# Altium footprint library PlantiumFormat.PcbLib: 4 footprints
Each footprint in its own frame and in the unit in brackets; x right, y up, seen from the top. Pads: shape width x height; smd on the part's side, far side on the other; paste and mask are expansions set on the pad; w line width, h text height; cw(c..) or ccw(c..) is an arc to the next point about the centre after c.
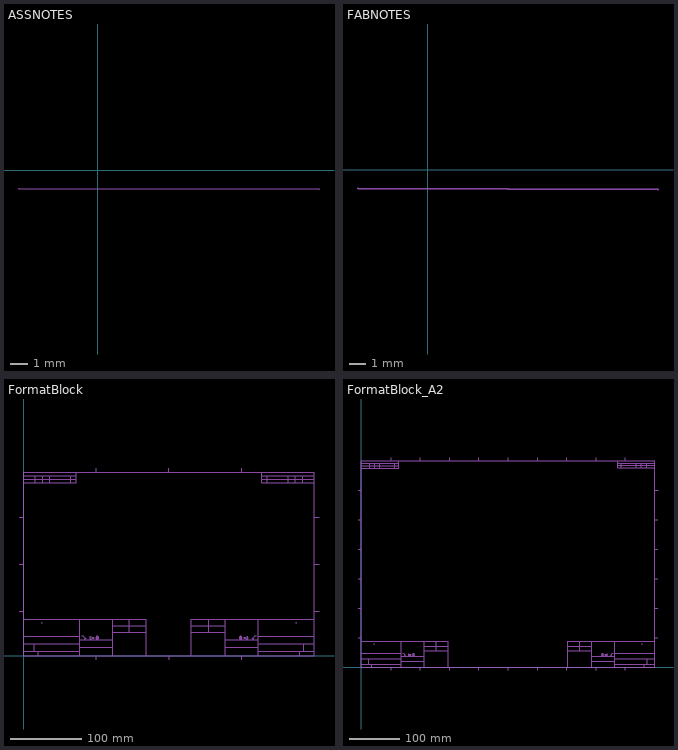
[diagram p0: the footprints below, top view; thin cyan lines are the x and y axes]

## ASSNOTES [mm]
Mechanical 29:
  lines w0.1: -4.578,-1.084 12.9,-1.1
  text ".N1_Item5" at -2.45,-25.5 h1.25
  text ".N1_Item4" at -2.7,-21.9 h1.25
  text ".N1_Item2" at -2.7,-11.7 h1.25
  text ".N1_Item8" at -2.95,-43.2 h1.25
  text ".N1_Item1" at -2.744,-7.7 h1.25
  text ".N1_Item3" at -2.7,-15.3 h1.25
  text ".N1_Item6" at -2.45,-33 h1.25
  text ".N1_Item7" at -2.7,-38.1 h1.25
  text "ASSEMBLY NOTES:" at -3.943,-0.449 h1.25
  text "2." at -5.184,-9.076 h1.25
  text "1." at -4.93,-6.364 h1.25
  text "4." at -5.184,-17.142 h1.25
  text "5." at -5.184,-23.669 h1.25
  text "6." at -5.184,-27.227 h1.25
  text "3." at -5.1,-13.8 h1.25
  text "7." at -5.438,-34.742 h1.25
  text "8." at -5.438,-39.772 h1.25

## FABNOTES [mm]
Mechanical 28:
  lines w0.127: -4.225,-1.121 13.9,-1.2
  text ".N2_Item7" at -1.85,-63 h1.25
  text ".N2_Item19" at -1.85,-127.5 h1.25
  text ".N2_Item2" at -1.85,-24.7 h1.25
  text ".N2_Item1" at -1.85,-12.3 h1.25
  text ".N2_Item6" at -1.85,-54 h1.25
  text ".N2_Item5" at -1.85,-45.8 h1.25
  text ".N2_Item9" at -1.85,-75.4 h1.25
  text ".N2_Item8" at -1.85,-69.3 h1.25
  text ".N2_Item16" at -1.85,-111.1 h1.25
  text ".N2_Item17" at -1.85,-117.3 h1.25
  text ".N2_Item22" at -1.85,-147 h1.25
  text ".N2_Item28" at -1.85,-176.6 h1.25
  text ".N2_Item3" at -1.85,-33.4 h1.25
  text ".N2_Item10" at -1.85,-81.7 h1.25
  text ".N2_Item15" at -1.85,-104.2 h1.25
  text ".N2_Item21" at -1.85,-138.1 h1.25
  text ".N2_Item27" at -1.85,-170.7 h1.25
  text "FABRICATION NOTES:" at -3.972,-0.561 h1.25
  text ".N2_Item12" at -1.75,-87.9 h1.25
  text ".N2_Item11" at -1.75,-83.65 h1.25
  text ".N2_Item13" at -1.75,-92.15 h1.25
  text ".N2_Item14" at -1.75,-96.15 h1.25
  text ".N2_Item18" at -1.75,-119.15 h1.25
  text ".N2_Item23" at -1.75,-149.15 h1.25
  text ".N2_Item26" at -1.85,-164.4 h1.25
  text ".N2_Item25" at -1.75,-158 h1.25
  text ".N2_Item4" at -1.75,-35.9 h1.25
  text ".N2_Item20" at -1.75,-129.4 h1.25
  text ".N2_Item24" at -1.75,-153.75 h1.25
  text "16." at -6.193,-106.657 h1.25
  text "1." at -6.193,-6.478 h1.25
  text "2." at -6.193,-14.81 h1.25
  text "3." at -6.193,-27.51 h1.25
  text "4." at -6.193,-35.841 h1.25
  text "8." at -6.193,-65.001 h1.25
  text "9." at -6.193,-71.401 h1.25
  text "10." at -6.193,-77.497 h1.25
  text "12." at -6.193,-87.861 h1.25
  text "11." at -6.193,-83.797 h1.25
  text "14." at -6.193,-96.293 h1.25
  text "13." at -6.193,-92.229 h1.25
  text "15." at -6.193,-100.357 h1.25
  text "17." at -6.193,-113.057 h1.25
  text "18." at -6.193,-119.153 h1.25
  text "24." at -6.193,-153.739 h1.25
  text "23." at -6.193,-149.218 h1.25
  text "26." at -6.193,-161.562 h1.25
  text "27." at -6.193,-167.025 h1.25
  text "5." at -6.193,-40.109 h1.25
  text "6." at -6.193,-48.338 h1.25
  text "7." at -6.193,-56.669 h1.25
  text "19." at -6.193,-123.421 h1.25
  text "20." at -6.193,-129.517 h1.25
  text "21." at -6.193,-133.885 h1.25
  text "22." at -6.193,-139.981 h1.25
  text "25." at -6.193,-158.002 h1.25
  text "28." at -6.193,-172.237 h1.25

## FormatBlock [mm]
Drill Guide:
  text "SHEET  3 OF 3" at 390.601,2.2 h1.2
  text "DRILL GUIDE" at 172.266,243.204 h6
Mechanical 11:
  text "LAMINATION DETAIL      Section A-A" at 170.358,243.077 h2.5
Mechanical 13:
  lines w0.127: -6.577,62.561 0,62.561 ; -6.577,128.427 0,128.427 ; -6.577,194.431 0,194.431 ; 101.92,257.533 101.92,262.881 ; 101.945,-5.469 101.945,-0.121 ; 203.84,257.533 203.84,262.881 ; 203.865,-5.469 203.865,-0.121 ; 235.374,32.878 282.945,32.878 ; 235.501,42.126 282.79,42.126 ; 259.33,33.005 259.33,51.374 ; 282.804,0.084 282.804,51.374 ; 282.804,11.606 329.046,11.606 ; 282.804,22.242 329.046,22.242 ; 305.76,257.533 305.76,262.881 ; 305.785,-5.469 305.785,-0.121 ; 328.999,6.605 407.666,6.605 ; 329.046,0.059 329.046,51.374 ; 329.046,27.501 407.658,27.501 ; 329.122,16.835 407.734,16.835 ; 334.104,247.893 407.658,247.893 ; 334.104,252.531 407.658,252.531 ; 334.104,257.398 334.104,242.936 407.697,242.936 ; 341.749,242.955 341.749,252.531 ; 371.162,242.946 371.162,252.474 ; 381.195,242.955 381.195,252.493 ; 387.342,0.16 387.342,6.637 ; 391.685,242.964 391.685,252.517 ; 392.701,6.605 392.701,16.597 ; 407.714,62.567 414.291,62.567 ; 407.714,128.433 414.291,128.433 ; 407.714,194.437 414.291,194.437
  lines w0.493: 235.374,0.084 235.374,51.374 407.616,51.374 ; 0,0 407.705,0 407.705,257.412 0,257.412 0,0
  text "'.Pcb_File_Name_No_Path'" at 330.708,1.6 h2
  text ".RevDate" at 395.931,244.955 h1.27
  text ".Approved" at 382.215,244.955 h1.27
  text ".Drawn" at 373.325,244.955 h1.27
  text ".HW_Version" at 335.733,244.955 h1.27
  text ".RevDescription" at 343.353,244.955 h1.27
  text "D" at -3.683,28.983 h2
  text "4" at 355.092,-3 h2
  text "B" at -3.683,160.528 h2
  text "C" at -3.907,94.236 h2
  text "4" at 356.72,259.489 h2
  text "A" at -3.907,226.29 h2
  text "2" at 152.88,259.461 h2
  text "3" at 254.8,259.461 h2
  text "1" at 50.92,259.461 h2
  text ".Approved" at 237.612,35.5 h2.54
  text ".Drawn" at 237.612,44.5 h2.54
  text ".RevDate" at 263.231,44.5 h1.78
  text ".RevDate" at 263.231,35.5 h1.78
  text "1" at 50.546,-3 h2
  text "A" at 410.384,226.296 h2
  text "2" at 152.273,-3 h2
  text "B" at 410.384,160.487 h2
  text "C" at 410.244,94.267 h2
  text "3" at 254.127,-3 h2
  text "D" at 410.384,28.952 h2
  text ".ProjectTitle" at 340.589,23 h2.5
  text ".HW_Version" at 397.002,10 h2
  text ".PartNumber" at 330.708,9 h4.01
  text ".Printout_Name" at 340.589,19 h2
Mechanical 14:
  lines w0.127: -6.577,62.561 0,62.561 ; -6.577,128.427 0,128.427 ; -6.577,194.431 0,194.431 ; -0.076,16.835 78.536,16.835 ; -0.008,6.605 78.659,6.605 ; 0,27.501 78.612,27.501 ; 0.227,242.682 73.82,242.682 73.82,257.144 ; 0.266,247.639 73.82,247.639 ; 0.266,252.277 73.82,252.277 ; 14.956,6.605 14.956,16.597 ; 16.239,242.71 16.239,252.263 ; 20.316,0.16 20.316,6.637 ; 26.729,242.701 26.729,252.239 ; 36.762,242.692 36.762,252.22 ; 66.175,242.701 66.175,252.277 ; 78.612,0.059 78.612,51.374 ; 78.612,11.606 124.854,11.606 ; 78.612,22.242 124.854,22.242 ; 101.596,257.367 101.641,257.412 ; 101.92,257.533 101.92,262.881 ; 101.945,-5.469 101.945,-0.121 ; 124.713,32.878 172.284,32.878 ; 124.854,0.084 124.854,51.374 ; 124.867,42.126 172.157,42.126 ; 148.327,33.005 148.327,51.374 ; 203.84,257.533 203.84,262.881 ; 203.865,-5.469 203.865,-0.121 ; 305.76,257.533 305.76,262.881 ; 305.785,-5.469 305.785,-0.121 ; 407.714,62.567 414.291,62.567 ; 407.714,128.433 414.291,128.433 ; 407.714,194.437 414.291,194.437
  lines w0.493: 0.042,51.374 172.284,51.374 172.284,0.084 ; 0,0 407.705,0 407.705,257.412 0,257.412 0,0
  text "'.Pcb_File_Name_No_Path'" at 76.95,1.6 h2
  text "A" at 411.895,226.296 h2
  text "2" at 255.397,-3 h2
  text "3" at 153.67,-3 h2
  text "1" at 358.14,259.461 h2
  text "1" at 356.489,-3 h2
  text "3" at 154.051,259.461 h2
  text "2" at 255.778,259.461 h2
  text "A" at -2.396,226.29 h2
  text "4" at 52.324,259.461 h2
  text "C" at -2.396,94.228 h2
  text "B" at -2.396,160.53 h2
  text "D" at -2.396,28.983 h2
  text "B" at 411.734,160.528 h2
  text "C" at 411.734,94.234 h2
  text "D" at 411.734,28.956 h2
  text "4" at 51.943,-3 h2
  text ".Drawn" at 170.046,44.5 h2.54
  text ".Approved" at 170.046,35.5 h2.54
  text ".RevDate" at 144.427,35.5 h1.78
  text ".RevDate" at 144.427,44.5 h1.78
  text ".HW_Version" at 10.656,10 h2
  text ".PartNumber" at 76.95,9 h4.01
  text ".Printout_Name" at 67.069,19 h2
  text ".ProjectTitle" at 67.069,23 h2.5
  text "SHEET  2 OF" at 16.692,2.2 h1.2
  text ".HW_Version" at 72.191,244.701 h1.27
  text ".RevDescription" at 64.571,244.701 h1.27
  text ".Drawn" at 34.599,244.701 h1.27
  text ".Approved" at 25.709,244.701 h1.27
  text ".RevDate" at 11.993,244.701 h1.27
Mechanical 15:
  circle w0.127: c304.387,25.324 r1.85
  circle w0.127: c304.387,25.324 r0.925
  lines w0.025: 381.847,46.261 381.974,46.261 ; 381.847,46.287 381.974,46.287 ; 381.847,46.312 381.974,46.312 ; 381.847,46.337 381.974,46.337 ; 381.847,46.363 381.974,46.363 ; 381.872,46.16 381.999,46.16 ; 381.872,46.185 381.999,46.185 ; 381.872,46.21 381.974,46.21 ; 381.872,46.236 381.974,46.236 ; 381.872,46.388 381.974,46.388 ; 381.872,46.414 381.974,46.414 ; 381.872,46.439 381.999,46.439 ; 381.872,46.464 381.999,46.464 ; 381.898,46.083 382.05,46.083 ; 381.898,46.109 382.025,46.109 ; 381.898,46.134 382.025,46.134 ; 381.898,46.49 382.025,46.49 ; 381.898,46.515 382.025,46.515 ; 381.923,46.058 382.076,46.058 ; 381.923,46.541 382.05,46.541 ; 381.923,46.566 382.076,46.566 ; 381.949,46.007 382.126,46.007 ; 381.949,46.033 382.101,46.033 ; 381.949,46.591 382.101,46.591 ; 381.974,45.982 382.177,45.982 ; 381.974,46.617 382.126,46.617 ; 381.999,45.956 382.228,45.956 ; 381.999,46.642 382.177,46.642 ; 382.025,46.668 382.279,46.668 ; 382.05,45.931 382.584,45.931 ; 382.05,46.693 382.558,46.693 ; 382.076,45.906 382.558,45.906 ; 382.101,46.718 382.533,46.718 ; 382.126,45.88 382.507,45.88 ; 382.126,46.058 382.253,46.058 ; 382.126,46.083 382.253,46.083 ; 382.126,46.109 382.253,46.109 ; 382.126,46.134 382.253,46.134 ; 382.126,46.16 382.253,46.16 ; 382.126,46.185 382.253,46.185 ; 382.126,46.21 382.253,46.21 ; 382.126,46.236 382.253,46.236 ; 382.126,46.261 382.457,46.261 ; 382.126,46.287 382.457,46.287 ; 382.126,46.312 382.457,46.312 ; 382.126,46.337 382.253,46.337 ; 382.126,46.363 382.253,46.363 ; 382.126,46.388 382.253,46.388 ; 382.126,46.414 382.253,46.414 ; 382.126,46.439 382.253,46.439 ; 382.126,46.464 382.253,46.464 ; 382.126,46.49 382.482,46.49 ; 382.126,46.515 382.482,46.515 ; 382.126,46.541 382.457,46.541 ; 382.152,46.744 382.457,46.744 ; 382.203,45.855 382.406,45.855 ; 382.203,46.566 382.355,46.566 ; 382.279,46.337 382.482,46.337 ; 382.33,46.236 382.482,46.236 ; 382.355,46.21 382.482,46.21 ; 382.355,46.363 382.507,46.363 ; 382.355,46.464 382.507,46.464 ; 382.355,46.668 382.609,46.668 ; 382.38,46.109 382.507,46.109 ; 382.38,46.134 382.507,46.134 ; 382.38,46.16 382.482,46.16 ; 382.38,46.185 382.482,46.185 ; 382.38,46.388 382.507,46.388 ; 382.38,46.439 382.507,46.439 ; 382.406,45.956 382.609,45.956 ; 382.406,46.058 382.533,46.058 ; 382.406,46.083 382.507,46.083 ; 382.406,46.414 382.507,46.414 ; 382.431,46.642 382.634,46.642 ; 382.457,45.982 382.634,45.982 ; 382.482,46.617 382.66,46.617 ; 382.507,46.007 382.66,46.007 ; 382.533,46.033 382.685,46.033 ; 382.533,46.591 382.685,46.591 ; 382.558,46.058 382.711,46.058 ; 382.558,46.566 382.685,46.566 ; 382.584,46.083 382.711,46.083 ; 382.584,46.515 382.711,46.515 ; 382.584,46.541 382.711,46.541 ; 382.609,46.109 382.736,46.109 ; 382.609,46.134 382.736,46.134 ; 382.609,46.49 382.736,46.49 ; 382.634,46.16 382.736,46.16 ; 382.634,46.185 382.761,46.185 ; 382.634,46.21 382.761,46.21 ; 382.634,46.414 382.761,46.414 ; 382.634,46.439 382.761,46.439 ; 382.634,46.464 382.736,46.464 ; 382.66,46.236 382.761,46.236 ; 382.66,46.261 382.761,46.261 ; 382.66,46.287 382.761,46.287 ; 382.66,46.312 382.761,46.312 ; 382.66,46.337 382.761,46.337 ; 382.66,46.363 382.761,46.363 ; 382.66,46.388 382.761,46.388
  lines w0.127: 302.075,25.324 302.999,25.324 ; 303.924,25.324 304.849,25.324 ; 304.387,23.167 304.387,24.091 ; 304.387,24.862 304.387,25.787 ; 304.387,26.712 304.387,27.636 ; 305.774,25.324 306.699,25.324 ; 309.011,25.324 311.323,25.324 ; 311.785,25.324 312.248,25.324 ; 312.71,25.324 315.022,25.324 ; 319.956,25.324 321.805,23.475 324.118,28.099 325.967,28.099 ; 309.473,24.399 314.098,23.475 314.098,27.174 309.473,26.249 309.473,24.399
  text "(SEE NOTES)" at 297.379,4 h2.03
  text "(SEE NOTES)" at 297.379,15 h2.03
  text "DATE" at 260.367,40.295 h1.2
  text "DATE" at 260.367,49.236 h1.27
  text "DRAWN" at 236.872,49.134 h1.27
  text "APPROVED" at 236.822,40.143 h1.27
  text "USED FOR MANUFACTURING  OR  FOR ANY" at 238.879,10.095 h1.27
  text "PROPRIETARY INFORMATION" at 242.206,28.103 h1.78
  text "INFORMATION  WHICH  SHALL  NOT  BE" at 238.752,20.026 h1.27
  text "THIS DOCUMENT CONTAINS PROPRIETARY" at 238.752,23.226 h1.27
  text "DOCUMENTS OR DISCLOSED TO OTHERS OR" at 238.93,13.32 h1.27
  text "PERMISSION OF PLANTIUM." at 238.879,3.262 h1.27
  text "REPRODUCED OR TRANSFERRED TO OTHER" at 238.879,16.648 h1.27
  text "OTHER PURPOSE WITHOUT THE PRIOR WRITTEN" at 238.803,6.462 h1.27
  text "VERSION" at 397.002,14.732 h1.2
  text "FILENAME:" at 330.827,4.837 h1.2
  text "PART NUMBER" at 331.03,14.844 h1.2
  text "FINISH:" at 285.464,8.832 h1.66
  text "MATERIAL:" at 285.464,19.467 h1.66
  text "TITLE" at 330.928,25.169 h1.66
  text "-DIMENSIONS ARE IN MILLIMETERS" at 284.653,43.581 h1.66
  text "UNLESS OTHERWISE SPECIFIED:" at 284.334,47.25 h1.65
  text "-REMOVE ALL BURRS & BREAK" at 284.653,40.652 h1.66
  text "SHARP EDGES" at 285.08,38.307 h1.66
  text "-TOLERANCE ON:" at 284.653,35.753 h1.66
  text "DECIMALS:" at 286.817,32.878 h1.66
  text "XXX .005" at 286.817,24.092 h1.66
  text "XX .01" at 286.817,26.866 h1.66
  text "ANGLES:" at 317.485,32.878 h1.66
  text "FRACTIONS:" at 301.612,32.723 h1.66
  text "1/64" at 302.537,29.486 h1.66
  text "X .02" at 286.817,29.641 h1.66
  text "63" at 319.493,26.249 h1.66
  text "1" at 320.881,29.486 h1.66
  text "1" at 320.881,29.486 h1.66
  text "Villa Constitucion, Santa Fe, CP 2919" at 331.63,32.244 h1.94
  text "PHONE (03400) 47-4199" at 331.63,28.819 h1.94
  text "PLANTIUM" at 362.137,43.264 h2.54
  text "San Luis 279" at 331.723,35.593 h1.94
  text "DRAWN" at 373.325,249.527 h1.23
  text "DATE" at 397.455,249.527 h1.23
  text "APPROVED" at 381.961,249.527 h1.2
  text "DESCRIPTION" at 352.243,249.527 h1.23
  text "VERSION" at 334.772,249.428 h1.14
  text "REVISIONS HISTORY" at 361.002,254.239 h1.4
Mechanical 16:
  circle w0.127: c103.271,25.324 r0.925
  circle w0.127: c103.271,25.324 r1.85
  lines w0.025: 24.896,46.185 25.023,46.185 ; 24.896,46.21 25.023,46.21 ; 24.896,46.236 24.998,46.236 ; 24.896,46.261 24.998,46.261 ; 24.896,46.287 24.998,46.287 ; 24.896,46.312 24.998,46.312 ; 24.896,46.337 24.998,46.337 ; 24.896,46.363 24.998,46.363 ; 24.896,46.388 24.998,46.388 ; 24.896,46.414 25.023,46.414 ; 24.896,46.439 25.023,46.439 ; 24.922,46.109 25.049,46.109 ; 24.922,46.134 25.049,46.134 ; 24.922,46.16 25.023,46.16 ; 24.922,46.464 25.023,46.464 ; 24.922,46.49 25.049,46.49 ; 24.947,46.058 25.099,46.058 ; 24.947,46.083 25.074,46.083 ; 24.947,46.515 25.074,46.515 ; 24.947,46.541 25.074,46.541 ; 24.972,46.033 25.125,46.033 ; 24.972,46.566 25.099,46.566 ; 24.972,46.591 25.125,46.591 ; 24.998,46.007 25.15,46.007 ; 24.998,46.617 25.176,46.617 ; 25.023,45.982 25.201,45.982 ; 25.023,46.642 25.226,46.642 ; 25.049,45.956 25.252,45.956 ; 25.049,46.668 25.303,46.668 ; 25.074,45.931 25.607,45.931 ; 25.099,45.906 25.582,45.906 ; 25.099,46.693 25.607,46.693 ; 25.125,46.058 25.252,46.058 ; 25.125,46.718 25.557,46.718 ; 25.15,45.88 25.531,45.88 ; 25.15,46.083 25.252,46.083 ; 25.15,46.109 25.277,46.109 ; 25.15,46.134 25.277,46.134 ; 25.15,46.363 25.303,46.363 ; 25.15,46.388 25.277,46.388 ; 25.15,46.414 25.252,46.414 ; 25.15,46.439 25.277,46.439 ; 25.15,46.464 25.303,46.464 ; 25.176,46.16 25.277,46.16 ; 25.176,46.185 25.277,46.185 ; 25.176,46.21 25.303,46.21 ; 25.176,46.236 25.328,46.236 ; 25.176,46.337 25.379,46.337 ; 25.176,46.49 25.531,46.49 ; 25.176,46.515 25.531,46.515 ; 25.201,46.261 25.531,46.261 ; 25.201,46.287 25.531,46.287 ; 25.201,46.312 25.531,46.312 ; 25.201,46.541 25.531,46.541 ; 25.201,46.744 25.506,46.744 ; 25.252,45.855 25.455,45.855 ; 25.303,46.566 25.455,46.566 ; 25.379,46.668 25.633,46.668 ; 25.404,46.058 25.531,46.058 ; 25.404,46.083 25.531,46.083 ; 25.404,46.109 25.531,46.109 ; 25.404,46.134 25.531,46.134 ; 25.404,46.16 25.531,46.16 ; 25.404,46.185 25.531,46.185 ; 25.404,46.21 25.531,46.21 ; 25.404,46.236 25.531,46.236 ; 25.404,46.337 25.531,46.337 ; 25.404,46.363 25.531,46.363 ; 25.404,46.388 25.531,46.388 ; 25.404,46.414 25.531,46.414 ; 25.404,46.439 25.531,46.439 ; 25.404,46.464 25.531,46.464 ; 25.43,45.956 25.658,45.956 ; 25.48,45.982 25.684,45.982 ; 25.48,46.642 25.658,46.642 ; 25.531,46.007 25.709,46.007 ; 25.531,46.617 25.684,46.617 ; 25.557,46.033 25.709,46.033 ; 25.557,46.591 25.709,46.591 ; 25.582,46.058 25.734,46.058 ; 25.582,46.566 25.734,46.566 ; 25.607,46.083 25.76,46.083 ; 25.607,46.541 25.734,46.541 ; 25.633,46.109 25.76,46.109 ; 25.633,46.134 25.76,46.134 ; 25.633,46.49 25.76,46.49 ; 25.633,46.515 25.76,46.515 ; 25.658,46.16 25.785,46.16 ; 25.658,46.185 25.785,46.185 ; 25.658,46.439 25.785,46.439 ; 25.658,46.464 25.785,46.464 ; 25.684,46.21 25.785,46.21 ; 25.684,46.236 25.785,46.236 ; 25.684,46.261 25.811,46.261 ; 25.684,46.287 25.811,46.287 ; 25.684,46.312 25.811,46.312 ; 25.684,46.337 25.811,46.337 ; 25.684,46.363 25.811,46.363 ; 25.684,46.388 25.785,46.388 ; 25.684,46.414 25.785,46.414
  lines w0.127: 81.69,28.099 83.54,28.099 85.852,23.475 87.702,25.324 ; 92.635,25.324 94.947,25.324 ; 95.41,25.324 95.872,25.324 ; 96.335,25.324 98.647,25.324 ; 100.959,25.324 101.884,25.324 ; 102.809,25.324 103.733,25.324 ; 103.271,23.167 103.271,24.091 ; 103.271,24.862 103.271,25.787 ; 103.271,26.712 103.271,27.636 ; 104.658,25.324 105.583,25.324 ; 93.56,23.475 93.56,27.174 98.184,26.249 98.184,24.399 93.56,23.475
  text "DRAWN" at 170.785,49.134 h1.27
  text "APPROVED" at 170.836,40.143 h1.27
  text "DATE" at 147.29,40.295 h1.2
  text "DATE" at 147.29,49.236 h1.27
  text "TITLE" at 76.729,25.169 h1.66
  text "VERSION" at 10.656,14.732 h1.2
  text "PART NUMBER" at 76.627,14.844 h1.2
  text "FILENAME:" at 76.831,4.837 h1.2
  text "(SEE NOTES)" at 110.279,4 h2.03
  text "FINISH:" at 122.194,8.832 h1.66
  text "MATERIAL:" at 122.194,19.467 h1.66
  text "(SEE NOTES)" at 110.279,15 h2.03
  text "REPRODUCED OR TRANSFERRED TO OTHER" at 168.779,16.648 h1.27
  text "PROPRIETARY INFORMATION" at 165.451,28.103 h1.78
  text "INFORMATION  WHICH  SHALL  NOT  BE" at 168.906,20.026 h1.27
  text "USED FOR MANUFACTURING  OR  FOR ANY" at 168.779,10.095 h1.27
  text "DOCUMENTS OR DISCLOSED TO OTHERS OR" at 168.728,13.32 h1.27
  text "PERMISSION OF PLANTIUM." at 168.779,3.262 h1.27
  text "OTHER PURPOSE WITHOUT THE PRIOR WRITTEN" at 168.855,6.462 h1.27
  text "THIS DOCUMENT CONTAINS PROPRIETARY" at 168.906,23.226 h1.27
  text "-TOLERANCE ON:" at 123.004,35.753 h1.66
  text "SHARP EDGES" at 122.578,38.307 h1.66
  text "FRACTIONS:" at 106.046,32.723 h1.66
  text "1/64" at 105.121,29.486 h1.66
  text "DECIMALS:" at 120.841,32.878 h1.66
  text "XXX .005" at 120.841,24.092 h1.66
  text "ANGLES:" at 90.172,32.878 h1.66
  text "XX .01" at 120.841,26.866 h1.66
  text "X .02" at 120.841,29.641 h1.66
  text "63" at 88.164,26.249 h1.66
  text "1" at 86.777,29.486 h1.66
  text "1" at 86.777,29.486 h1.66
  text "-REMOVE ALL BURRS & BREAK" at 123.004,40.652 h1.66
  text "-DIMENSIONS ARE IN MILLIMETERS" at 123.004,43.581 h1.66
  text "UNLESS OTHERWISE SPECIFIED:" at 123.324,47.25 h1.65
  text "PHONE (03400) 47-4199" at 76.028,28.819 h1.94
  text "San Luis 279" at 75.935,35.593 h1.94
  text "Villa Constitucion, Santa Fe, CP 2919" at 76.028,32.244 h1.94
  text "PLANTIUM" at 45.521,43.264 h2.54
  text "VERSION" at 73.152,249.174 h1.14
  text "DESCRIPTION" at 55.681,249.273 h1.23
  text "REVISIONS HISTORY" at 46.922,253.985 h1.4
  text "APPROVED" at 25.963,249.273 h1.2
  text "DRAWN" at 34.599,249.273 h1.23
  text "DATE" at 10.469,249.273 h1.23
Drill Drawing:
  text "DRILL DRAWING" at 167,243.2 h6
  text "SHEET  2 OF 3" at 390.6,2.2 h1.2
Mechanical 20:
  text "TOP ASSEMBLY DRAWING" at 151.939,243.204 h6
  text "2" at 402.59,2.2 h1.2
Mechanical 21:
  text "3" at 4.517,2.2 h1.2
Mechanical 22:
  text "BOTTOM ASSEMBLY DRAWING" at 263.058,243.204 h6
  text "2" at 4.517,2.2 h1.2
Mechanical 23:
  text "3" at 402.59,2.2 h1.2
Mechanical 24:
  text "SHEET  1 OF" at 390.597,2.2 h1.2

## FormatBlock_A2 [mm]
Drill Guide:
  text "SHEET  3 OF 3" at 563.742,2.2 h1.2
  text "DRILL GUIDE" at 271.866,393.104 h6
Mechanical 11:
  text "LAMINATION DETAIL      Section A-A" at 269.958,392.977 h2.5
Mechanical 13:
  lines w0.127: -6.579,58.487 -0.002,58.487 ; -6.578,116.956 -0.002,116.956 ; -6.578,175.425 -0.001,175.425 ; -6.578,233.893 -0.001,233.893 ; -6.578,292.362 -0.001,292.362 ; -6.577,350.831 -0.001,350.831 ; 58.846,-5.348 58.846,0 ; 58.846,409.3 58.846,414.648 ; 116.846,-5.348 116.846,0 ; 116.846,409.3 116.846,414.648 ; 174.846,-5.348 174.846,0 ; 174.846,409.3 174.846,414.648 ; 232.846,-5.348 232.846,0 ; 232.846,409.3 232.846,414.648 ; 290.846,-5.348 290.846,0 ; 290.846,409.3 290.846,414.648 ; 348.846,-5.348 348.846,0 ; 348.846,409.3 348.846,414.648 ; 406.846,-5.348 406.846,0 ; 406.846,409.3 406.846,414.648 ; 408.514,32.878 456.086,32.878 ; 408.641,42.126 455.931,42.126 ; 432.471,33.005 432.471,51.374 ; 455.944,0.084 455.944,51.374 ; 455.944,11.606 502.186,11.606 ; 455.944,22.242 502.186,22.242 ; 464.846,-5.348 464.846,0 ; 464.846,409.3 464.846,414.648 ; 502.14,6.605 580.806,6.605 ; 502.186,0.059 502.186,51.374 ; 502.186,27.501 580.798,27.501 ; 502.263,16.835 580.874,16.835 ; 507.244,399.781 580.798,399.781 ; 507.244,404.419 580.798,404.419 ; 507.244,409.286 507.244,394.824 580.838,394.824 ; 514.89,394.843 514.89,404.419 ; 522.846,-5.348 522.846,0 ; 522.846,409.3 522.846,414.648 ; 544.303,394.834 544.303,404.362 ; 554.336,394.843 554.336,404.381 ; 560.483,0.16 560.483,6.637 ; 564.826,394.852 564.826,404.405 ; 565.842,6.605 565.842,16.597 ; 580.844,58.487 587.421,58.487 ; 580.844,116.956 587.421,116.956 ; 580.845,175.425 587.421,175.425 ; 580.845,233.893 587.422,233.893 ; 580.845,292.362 587.422,292.362 ; 580.845,350.831 587.422,350.831
  lines w0.493: 408.514,0.084 408.514,51.374 580.756,51.374 ; 0,0 0,409.3 580.846,409.3 580.846,0 0,0
  text "1" at 550.761,-3.271 h2
  text "2" at 492.8,-3.3 h2
  text "4" at 376.761,-3.271 h2
  text "5" at 318.761,-3.271 h2
  text "6" at 260.761,-3.271 h2
  text "7" at 202.761,-3.271 h2
  text "8" at 144.761,-3.271 h2
  text "9" at 86.2,-3.3 h2
  text "3" at 434.761,-3.271 h2
  text "10" at 28.6,-3.271 h2
  text "10" at 28.6,411.4 h2
  text "3" at 434.761,411.377 h2
  text "9" at 86.761,411.377 h2
  text "8" at 144.761,411.377 h2
  text "7" at 202.761,411.377 h2
  text "6" at 260.761,411.377 h2
  text "5" at 318.761,411.377 h2
  text "4" at 376.761,411.377 h2
  text "A" at 583.416,380.79 h2
  text "C" at 583.316,261.636 h2
  text "B" at 583.54,320.528 h2
  text "D" at 583.54,203.383 h2
  text "E" at 583.44,145.383 h2
  text "F" at 583.44,88.983 h2
  text "G" at 583.54,26.683 h2
  text "G" at -3.883,26.683 h2
  text "F" at -3.983,88.983 h2
  text "E" at -3.983,145.383 h2
  text ".Printout_Name" at 513.73,19 h2
  text ".PartNumber" at 503.849,9 h4.01
  text ".HW_Version" at 570.143,10 h2
  text ".ProjectTitle" at 513.73,23 h2.5
  text ".RevDate" at 436.371,35.5 h1.78
  text ".RevDate" at 436.371,44.5 h1.78
  text ".Drawn" at 410.753,44.5 h2.54
  text ".Approved" at 410.753,35.5 h2.54
  text "'.Pcb_File_Name_No_Path'" at 503.849,1.6 h2
  text ".RevDescription" at 516.493,396.843 h1.27
  text ".HW_Version" at 508.873,396.843 h1.27
  text ".Drawn" at 546.465,396.843 h1.27
  text ".Approved" at 555.355,396.843 h1.27
  text ".RevDate" at 569.071,396.843 h1.27
  text "2" at 493.985,411.329 h2
  text "1" at 550.761,411.377 h2
  text "D" at -3.883,203.383 h2
  text "B" at -3.883,320.528 h2
  text "C" at -4.107,261.636 h2
  text "A" at -4.007,380.79 h2
Mechanical 14:
  lines w0.127: -6.579,58.487 -0.002,58.487 ; -6.578,116.956 -0.002,116.956 ; -6.578,175.425 -0.001,175.425 ; -6.578,233.893 -0.001,233.893 ; -6.578,292.362 -0.001,292.362 ; -6.577,350.831 -0.001,350.831 ; -0.076,16.835 78.536,16.835 ; -0.008,6.605 78.659,6.605 ; 0,27.501 78.612,27.501 ; 0.227,394.57 73.82,394.57 73.82,409.032 ; 0.266,399.527 73.82,399.527 ; 0.266,404.165 73.82,404.165 ; 14.956,6.605 14.956,16.597 ; 16.239,394.598 16.239,404.151 ; 20.316,0.16 20.316,6.637 ; 26.729,394.589 26.729,404.127 ; 36.762,394.58 36.762,404.108 ; 58.846,-5.348 58.846,0 ; 58.846,409.3 58.846,414.648 ; 66.175,394.589 66.175,404.165 ; 78.612,0.059 78.612,51.374 ; 78.612,11.606 124.854,11.606 ; 78.612,22.242 124.854,22.242 ; 116.846,-5.348 116.846,0 ; 116.846,409.3 116.846,414.648 ; 124.713,32.878 172.284,32.878 ; 124.854,0.084 124.854,51.374 ; 124.867,42.126 172.157,42.126 ; 148.327,33.005 148.327,51.374 ; 174.846,-5.348 174.846,0 ; 174.846,409.3 174.846,414.648 ; 232.846,-5.348 232.846,0 ; 232.846,409.3 232.846,414.648 ; 290.846,-5.348 290.846,0 ; 290.846,409.3 290.846,414.648 ; 348.846,-5.348 348.846,0 ; 348.846,409.3 348.846,414.648 ; 406.846,-5.348 406.846,0 ; 406.846,409.3 406.846,414.648 ; 464.846,-5.348 464.846,0 ; 464.846,409.3 464.846,414.648 ; 522.846,-5.348 522.846,0 ; 522.846,409.3 522.846,414.648 ; 580.844,58.487 587.421,58.487 ; 580.844,116.956 587.421,116.956 ; 580.845,175.425 587.421,175.425 ; 580.845,233.893 587.422,233.893 ; 580.845,292.362 587.422,292.362 ; 580.845,350.831 587.422,350.831
  lines w0.493: 0.042,51.374 172.284,51.374 172.284,0.084 ; 0,0 0,409.3 580.846,409.3 580.846,0 0,0
  text "1" at 30.085,-3.271 h2
  text "2" at 87.4,-3.3 h2
  text "4" at 204.085,-3.271 h2
  text "5" at 262.085,-3.271 h2
  text "6" at 320.085,-3.271 h2
  text "7" at 378.085,-3.271 h2
  text "8" at 436.085,-3.271 h2
  text "9" at 494.085,-3.271 h2
  text "3" at 146.085,-3.271 h2
  text "10" at 552.3,-3.2 h2
  text "D" at 584.827,203.383 h2
  text "B" at 584.827,320.53 h2
  text "C" at 584.827,261.628 h2
  text "A" at 584.927,380.79 h2
  text "E" at 584.727,145.383 h2
  text "F" at 584.727,88.983 h2
  text "G" at 585.023,26.7 h2
  text "G" at -2.4,26.7 h2
  text "F" at -2.696,88.983 h2
  text "E" at -2.696,145.383 h2
  text ".RevDate" at 11.993,396.589 h1.27
  text ".Approved" at 25.709,396.589 h1.27
  text ".Drawn" at 34.599,396.589 h1.27
  text ".RevDescription" at 64.571,396.589 h1.27
  text ".HW_Version" at 72.191,396.589 h1.27
  text "A" at -2.496,380.79 h2
  text "C" at -2.596,261.628 h2
  text "B" at -2.596,320.53 h2
  text "D" at -2.596,203.383 h2
  text "'.Pcb_File_Name_No_Path'" at 76.95,1.6 h2
  text ".Drawn" at 170.046,44.5 h2.54
  text ".Approved" at 170.046,35.5 h2.54
  text ".RevDate" at 144.427,35.5 h1.78
  text ".RevDate" at 144.427,44.5 h1.78
  text ".HW_Version" at 10.656,10 h2
  text ".PartNumber" at 76.95,9 h4.01
  text ".Printout_Name" at 67.069,19 h2
  text ".ProjectTitle" at 67.069,23 h2.5
  text "SHEET  2 OF" at 16.692,2.2 h1.2
  text "10" at 552.2,411.4 h2
  text "3" at 145.985,411.329 h2
  text "9" at 495.2,411.4 h2
  text "8" at 435.985,411.329 h2
  text "7" at 377.985,411.329 h2
  text "6" at 319.985,411.329 h2
  text "5" at 261.985,411.329 h2
  text "4" at 203.985,411.329 h2
  text "2" at 88,411.4 h2
  text "1" at 30.1,411.4 h2
Mechanical 15:
  circle w0.127: c477.527,25.324 r0.925
  circle w0.127: c477.527,25.324 r1.85
  lines w0.025: 554.988,46.261 555.115,46.261 ; 554.988,46.287 555.115,46.287 ; 554.988,46.312 555.115,46.312 ; 554.988,46.337 555.115,46.337 ; 554.988,46.363 555.115,46.363 ; 555.013,46.16 555.14,46.16 ; 555.013,46.185 555.14,46.185 ; 555.013,46.21 555.115,46.21 ; 555.013,46.236 555.115,46.236 ; 555.013,46.388 555.115,46.388 ; 555.013,46.414 555.115,46.414 ; 555.013,46.439 555.14,46.439 ; 555.013,46.464 555.14,46.464 ; 555.039,46.083 555.191,46.083 ; 555.039,46.109 555.166,46.109 ; 555.039,46.134 555.166,46.134 ; 555.039,46.49 555.166,46.49 ; 555.039,46.515 555.166,46.515 ; 555.064,46.058 555.216,46.058 ; 555.064,46.541 555.191,46.541 ; 555.064,46.566 555.216,46.566 ; 555.089,46.007 555.267,46.007 ; 555.089,46.033 555.242,46.033 ; 555.089,46.591 555.242,46.591 ; 555.115,45.982 555.318,45.982 ; 555.115,46.617 555.267,46.617 ; 555.14,45.956 555.369,45.956 ; 555.14,46.642 555.318,46.642 ; 555.166,46.668 555.42,46.668 ; 555.191,45.931 555.724,45.931 ; 555.191,46.693 555.699,46.693 ; 555.216,45.906 555.699,45.906 ; 555.242,46.718 555.674,46.718 ; 555.267,45.88 555.648,45.88 ; 555.267,46.058 555.394,46.058 ; 555.267,46.083 555.394,46.083 ; 555.267,46.109 555.394,46.109 ; 555.267,46.134 555.394,46.134 ; 555.267,46.16 555.394,46.16 ; 555.267,46.185 555.394,46.185 ; 555.267,46.21 555.394,46.21 ; 555.267,46.236 555.394,46.236 ; 555.267,46.261 555.597,46.261 ; 555.267,46.287 555.597,46.287 ; 555.267,46.312 555.597,46.312 ; 555.267,46.337 555.394,46.337 ; 555.267,46.363 555.394,46.363 ; 555.267,46.388 555.394,46.388 ; 555.267,46.414 555.394,46.414 ; 555.267,46.439 555.394,46.439 ; 555.267,46.464 555.394,46.464 ; 555.267,46.49 555.623,46.49 ; 555.267,46.515 555.623,46.515 ; 555.267,46.541 555.597,46.541 ; 555.293,46.744 555.597,46.744 ; 555.343,45.855 555.547,45.855 ; 555.343,46.566 555.496,46.566 ; 555.42,46.337 555.623,46.337 ; 555.47,46.236 555.623,46.236 ; 555.496,46.21 555.623,46.21 ; 555.496,46.363 555.648,46.363 ; 555.496,46.464 555.648,46.464 ; 555.496,46.668 555.75,46.668 ; 555.521,46.109 555.648,46.109 ; 555.521,46.134 555.648,46.134 ; 555.521,46.16 555.623,46.16 ; 555.521,46.185 555.623,46.185 ; 555.521,46.388 555.648,46.388 ; 555.521,46.439 555.648,46.439 ; 555.547,45.956 555.75,45.956 ; 555.547,46.058 555.674,46.058 ; 555.547,46.083 555.648,46.083 ; 555.547,46.414 555.648,46.414 ; 555.572,46.642 555.775,46.642 ; 555.597,45.982 555.775,45.982 ; 555.623,46.617 555.801,46.617 ; 555.648,46.007 555.801,46.007 ; 555.674,46.033 555.826,46.033 ; 555.674,46.591 555.826,46.591 ; 555.699,46.058 555.851,46.058 ; 555.699,46.566 555.826,46.566 ; 555.724,46.083 555.851,46.083 ; 555.724,46.515 555.851,46.515 ; 555.724,46.541 555.851,46.541 ; 555.75,46.109 555.877,46.109 ; 555.75,46.134 555.877,46.134 ; 555.75,46.49 555.877,46.49 ; 555.775,46.16 555.877,46.16 ; 555.775,46.185 555.902,46.185 ; 555.775,46.21 555.902,46.21 ; 555.775,46.414 555.902,46.414 ; 555.775,46.439 555.902,46.439 ; 555.775,46.464 555.877,46.464 ; 555.801,46.236 555.902,46.236 ; 555.801,46.261 555.902,46.261 ; 555.801,46.287 555.902,46.287 ; 555.801,46.312 555.902,46.312 ; 555.801,46.337 555.902,46.337 ; 555.801,46.363 555.902,46.363 ; 555.801,46.388 555.902,46.388
  lines w0.127: 475.215,25.324 476.14,25.324 ; 477.065,25.324 477.99,25.324 ; 477.527,23.167 477.527,24.091 ; 477.527,24.862 477.527,25.787 ; 477.527,26.712 477.527,27.636 ; 478.915,25.324 479.839,25.324 ; 482.152,25.324 484.464,25.324 ; 484.926,25.324 485.388,25.324 ; 485.851,25.324 488.163,25.324 ; 493.096,25.324 494.946,23.475 497.258,28.099 499.108,28.099 ; 482.614,24.399 482.614,26.249 487.238,27.174 487.238,23.475 482.614,24.399
  text "San Luis 279" at 504.864,35.593 h1.94
  text "PLANTIUM" at 535.277,43.264 h2.54
  text "PHONE (03400) 47-4199" at 504.77,28.819 h1.94
  text "Villa Constitucion, Santa Fe, CP 2919" at 504.77,32.244 h1.94
  text "1" at 494.021,29.486 h1.66
  text "1" at 494.021,29.486 h1.66
  text "63" at 492.634,26.249 h1.66
  text "X .02" at 459.958,29.641 h1.66
  text "1/64" at 475.678,29.486 h1.66
  text "FRACTIONS:" at 474.753,32.723 h1.66
  text "ANGLES:" at 490.626,32.878 h1.66
  text "XX .01" at 459.958,26.866 h1.66
  text "XXX .005" at 459.958,24.092 h1.66
  text "DECIMALS:" at 459.958,32.878 h1.66
  text "-TOLERANCE ON:" at 457.794,35.753 h1.66
  text "SHARP EDGES" at 458.221,38.307 h1.66
  text "-REMOVE ALL BURRS & BREAK" at 457.794,40.652 h1.66
  text "UNLESS OTHERWISE SPECIFIED:" at 457.474,47.25 h1.65
  text "-DIMENSIONS ARE IN MILLIMETERS" at 457.794,43.581 h1.66
  text "TITLE" at 504.069,25.169 h1.66
  text "MATERIAL:" at 458.605,19.467 h1.66
  text "FINISH:" at 458.605,8.832 h1.66
  text "PART NUMBER" at 504.171,14.844 h1.2
  text "FILENAME:" at 503.968,4.837 h1.2
  text "VERSION" at 570.143,14.732 h1.2
  text "OTHER PURPOSE WITHOUT THE PRIOR WRITTEN" at 411.943,6.462 h1.27
  text "REPRODUCED OR TRANSFERRED TO OTHER" at 412.02,16.648 h1.27
  text "PERMISSION OF PLANTIUM." at 412.02,3.262 h1.27
  text "DOCUMENTS OR DISCLOSED TO OTHERS OR" at 412.07,13.32 h1.27
  text "THIS DOCUMENT CONTAINS PROPRIETARY" at 411.893,23.226 h1.27
  text "INFORMATION  WHICH  SHALL  NOT  BE" at 411.893,20.026 h1.27
  text "PROPRIETARY INFORMATION" at 415.347,28.103 h1.78
  text "USED FOR MANUFACTURING  OR  FOR ANY" at 412.02,10.095 h1.27
  text "APPROVED" at 409.962,40.143 h1.27
  text "DRAWN" at 410.013,49.134 h1.27
  text "DATE" at 433.508,49.236 h1.27
  text "DATE" at 433.508,40.295 h1.2
  text "(SEE NOTES)" at 470.519,15 h2.03
  text "(SEE NOTES)" at 470.519,4 h2.03
  text "REVISIONS HISTORY" at 534.143,406.127 h1.4
  text "VERSION" at 507.913,401.316 h1.14
  text "DESCRIPTION" at 525.383,401.415 h1.23
  text "APPROVED" at 555.101,401.415 h1.2
  text "DATE" at 570.595,401.415 h1.23
  text "DRAWN" at 546.465,401.415 h1.23
Mechanical 16:
  circle w0.127: c103.271,25.324 r0.925
  circle w0.127: c103.271,25.324 r1.85
  lines w0.025: 24.896,46.185 25.023,46.185 ; 24.896,46.21 25.023,46.21 ; 24.896,46.236 24.998,46.236 ; 24.896,46.261 24.998,46.261 ; 24.896,46.287 24.998,46.287 ; 24.896,46.312 24.998,46.312 ; 24.896,46.337 24.998,46.337 ; 24.896,46.363 24.998,46.363 ; 24.896,46.388 24.998,46.388 ; 24.896,46.414 25.023,46.414 ; 24.896,46.439 25.023,46.439 ; 24.922,46.109 25.049,46.109 ; 24.922,46.134 25.049,46.134 ; 24.922,46.16 25.023,46.16 ; 24.922,46.464 25.023,46.464 ; 24.922,46.49 25.049,46.49 ; 24.947,46.058 25.099,46.058 ; 24.947,46.083 25.074,46.083 ; 24.947,46.515 25.074,46.515 ; 24.947,46.541 25.074,46.541 ; 24.972,46.033 25.125,46.033 ; 24.972,46.566 25.099,46.566 ; 24.972,46.591 25.125,46.591 ; 24.998,46.007 25.15,46.007 ; 24.998,46.617 25.176,46.617 ; 25.023,45.982 25.201,45.982 ; 25.023,46.642 25.226,46.642 ; 25.049,45.956 25.252,45.956 ; 25.049,46.668 25.303,46.668 ; 25.074,45.931 25.607,45.931 ; 25.099,45.906 25.582,45.906 ; 25.099,46.693 25.607,46.693 ; 25.125,46.058 25.252,46.058 ; 25.125,46.718 25.557,46.718 ; 25.15,45.88 25.531,45.88 ; 25.15,46.083 25.252,46.083 ; 25.15,46.109 25.277,46.109 ; 25.15,46.134 25.277,46.134 ; 25.15,46.363 25.303,46.363 ; 25.15,46.388 25.277,46.388 ; 25.15,46.414 25.252,46.414 ; 25.15,46.439 25.277,46.439 ; 25.15,46.464 25.303,46.464 ; 25.176,46.16 25.277,46.16 ; 25.176,46.185 25.277,46.185 ; 25.176,46.21 25.303,46.21 ; 25.176,46.236 25.328,46.236 ; 25.176,46.337 25.379,46.337 ; 25.176,46.49 25.531,46.49 ; 25.176,46.515 25.531,46.515 ; 25.201,46.261 25.531,46.261 ; 25.201,46.287 25.531,46.287 ; 25.201,46.312 25.531,46.312 ; 25.201,46.541 25.531,46.541 ; 25.201,46.744 25.506,46.744 ; 25.252,45.855 25.455,45.855 ; 25.303,46.566 25.455,46.566 ; 25.379,46.668 25.633,46.668 ; 25.404,46.058 25.531,46.058 ; 25.404,46.083 25.531,46.083 ; 25.404,46.109 25.531,46.109 ; 25.404,46.134 25.531,46.134 ; 25.404,46.16 25.531,46.16 ; 25.404,46.185 25.531,46.185 ; 25.404,46.21 25.531,46.21 ; 25.404,46.236 25.531,46.236 ; 25.404,46.337 25.531,46.337 ; 25.404,46.363 25.531,46.363 ; 25.404,46.388 25.531,46.388 ; 25.404,46.414 25.531,46.414 ; 25.404,46.439 25.531,46.439 ; 25.404,46.464 25.531,46.464 ; 25.43,45.956 25.658,45.956 ; 25.48,45.982 25.684,45.982 ; 25.48,46.642 25.658,46.642 ; 25.531,46.007 25.709,46.007 ; 25.531,46.617 25.684,46.617 ; 25.557,46.033 25.709,46.033 ; 25.557,46.591 25.709,46.591 ; 25.582,46.058 25.734,46.058 ; 25.582,46.566 25.734,46.566 ; 25.607,46.083 25.76,46.083 ; 25.607,46.541 25.734,46.541 ; 25.633,46.109 25.76,46.109 ; 25.633,46.134 25.76,46.134 ; 25.633,46.49 25.76,46.49 ; 25.633,46.515 25.76,46.515 ; 25.658,46.16 25.785,46.16 ; 25.658,46.185 25.785,46.185 ; 25.658,46.439 25.785,46.439 ; 25.658,46.464 25.785,46.464 ; 25.684,46.21 25.785,46.21 ; 25.684,46.236 25.785,46.236 ; 25.684,46.261 25.811,46.261 ; 25.684,46.287 25.811,46.287 ; 25.684,46.312 25.811,46.312 ; 25.684,46.337 25.811,46.337 ; 25.684,46.363 25.811,46.363 ; 25.684,46.388 25.785,46.388 ; 25.684,46.414 25.785,46.414
  lines w0.127: 81.69,28.099 83.54,28.099 85.852,23.475 87.702,25.324 ; 92.635,25.324 94.947,25.324 ; 95.41,25.324 95.872,25.324 ; 96.335,25.324 98.647,25.324 ; 100.959,25.324 101.884,25.324 ; 102.809,25.324 103.733,25.324 ; 103.271,23.167 103.271,24.091 ; 103.271,24.862 103.271,25.787 ; 103.271,26.712 103.271,27.636 ; 104.658,25.324 105.583,25.324 ; 93.56,23.475 93.56,27.174 98.184,26.249 98.184,24.399 93.56,23.475
  text "DATE" at 10.469,401.161 h1.23
  text "DRAWN" at 34.599,401.161 h1.23
  text "APPROVED" at 25.963,401.161 h1.2
  text "REVISIONS HISTORY" at 46.922,405.873 h1.4
  text "DESCRIPTION" at 55.681,401.161 h1.23
  text "VERSION" at 73.152,401.062 h1.14
  text "DRAWN" at 170.785,49.134 h1.27
  text "APPROVED" at 170.836,40.143 h1.27
  text "DATE" at 147.29,40.295 h1.2
  text "DATE" at 147.29,49.236 h1.27
  text "TITLE" at 76.729,25.169 h1.66
  text "VERSION" at 10.656,14.732 h1.2
  text "PART NUMBER" at 76.627,14.844 h1.2
  text "FILENAME:" at 76.831,4.837 h1.2
  text "(SEE NOTES)" at 110.279,4 h2.03
  text "FINISH:" at 122.194,8.832 h1.66
  text "MATERIAL:" at 122.194,19.467 h1.66
  text "(SEE NOTES)" at 110.279,15 h2.03
  text "REPRODUCED OR TRANSFERRED TO OTHER" at 168.779,16.648 h1.27
  text "PROPRIETARY INFORMATION" at 165.451,28.103 h1.78
  text "INFORMATION  WHICH  SHALL  NOT  BE" at 168.906,20.026 h1.27
  text "USED FOR MANUFACTURING  OR  FOR ANY" at 168.779,10.095 h1.27
  text "DOCUMENTS OR DISCLOSED TO OTHERS OR" at 168.728,13.32 h1.27
  text "PERMISSION OF PLANTIUM." at 168.779,3.262 h1.27
  text "OTHER PURPOSE WITHOUT THE PRIOR WRITTEN" at 168.855,6.462 h1.27
  text "THIS DOCUMENT CONTAINS PROPRIETARY" at 168.906,23.226 h1.27
  text "-TOLERANCE ON:" at 123.004,35.753 h1.66
  text "SHARP EDGES" at 122.578,38.307 h1.66
  text "FRACTIONS:" at 106.046,32.723 h1.66
  text "1/64" at 105.121,29.486 h1.66
  text "DECIMALS:" at 120.841,32.878 h1.66
  text "XXX .005" at 120.841,24.092 h1.66
  text "ANGLES:" at 90.172,32.878 h1.66
  text "XX .01" at 120.841,26.866 h1.66
  text "X .02" at 120.841,29.641 h1.66
  text "63" at 88.164,26.249 h1.66
  text "1" at 86.777,29.486 h1.66
  text "1" at 86.777,29.486 h1.66
  text "-REMOVE ALL BURRS & BREAK" at 123.004,40.652 h1.66
  text "-DIMENSIONS ARE IN MILLIMETERS" at 123.004,43.581 h1.66
  text "UNLESS OTHERWISE SPECIFIED:" at 123.324,47.25 h1.65
  text "PHONE (03400) 47-4199" at 76.028,28.819 h1.94
  text "San Luis 279" at 75.935,35.593 h1.94
  text "Villa Constitucion, Santa Fe, CP 2919" at 76.028,32.244 h1.94
  text "PLANTIUM" at 45.521,43.264 h2.54
Drill Drawing:
  text "SHEET  2 OF 3" at 563.741,2.2 h1.2
  text "DRILL DRAWING" at 266.6,393.1 h6
Mechanical 20:
  text "2" at 575.731,2.2 h1.2
  text "TOP ASSEMBLY DRAWING" at 251.539,393.104 h6
Mechanical 21:
  text "3" at 4.517,2.2 h1.2
Mechanical 22:
  text "BOTTOM ASSEMBLY DRAWING" at 362.658,393.104 h6
  text "2" at 4.517,2.2 h1.2
Mechanical 23:
  text "3" at 575.731,2.2 h1.2
Mechanical 24:
  text "SHEET  1 OF" at 563.737,2.2 h1.2